# EAGLE library part 691328310006 (library WR-TBL Pluggable Connector)
WR-TBL Serie 3283 - 3.81 mm Double Level Horizontal Male PCB Header with Flanges & Nut Type KIND PROPERTIES Pitch 3.81 mm MATERIAL PROPERTIES Insulator Material PA66 Insulator Flammability Rating UL94 V-0 Contact Material Brass Contact Plating Tin GENERAL INFORMATION Operating Temperature -40 up to +105 °C Compliance RoHS ELECTRICAL PROPERTIES IR UL 10 A Working Voltage [UL] 300 V (AC) Withstanding Voltage [cULus] 1600 V (AC) Contact Resistance [cULus] 20 mΩ CERTIFICATION cULus Approval E315414 <https://www.we-online.com/catalog/media/o33281v209%20Family_WR-TBL_6913283100xx.jpg> Details see: https://www.we-online.com/catalog/en/TBL_3_81_3283_DOUBLE_LEVEL_HORIZONTAL_MALE_PCB_HEADER_W_FLANGES_AND_NUT_6913283100XX/ Updated by Ella Wu 2019-12-23 2022(C) Wurth Elektronik
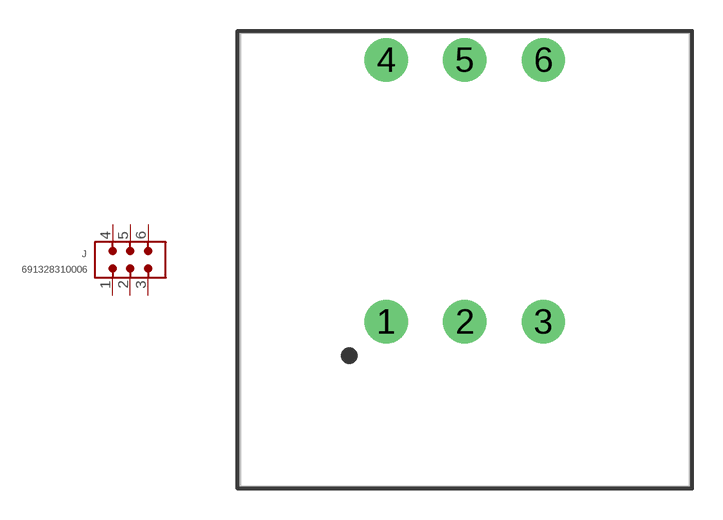
[diagram p21: symbol with the pads of 691328310006; footprint 691328310006]

Designator prefix J

## 691328310006 (DATASHEET-URL: https://www.we-online.com/redexpert/spec/691328310006?ae; IR-UL: 10A; MOUNT: THT; PART-NUMBER: 691328310006; PINS: 6; PITCH: 3.81mm; TYPE: Double Level Horizontal; VALUE: 691328310006; WORKING-VOLTAGE-UL: 300V (AC))  [691328310006]
1  1  pas
2  2  pas
3  3  pas
4  4  pas
5  5  pas
6  6  pas

## Footprint 691328310006 (pad centres in mm)
WR-TBL Serie 3283 - 3.81 mm Double Level Horizontal Male PCB Header with Flanges & Nut Type Max Height = 22.7mm , Pitch 3.81mm , 6pins
drill 1.4: 1 -3.81,-6.35; 2 0,-6.35; 3 3.81,-6.35; 4 -3.81,6.35; 5 0,6.35; 6 3.81,6.35